# EAGLE library part WIFI2GO (library WIFI2GO)
wifi2go Wi-Fi module made by ImageCraft, USA. The module is based on the CC3100 Wi-Fi chip from Texas Instruments. The module has a STM32F411RCT6 micro-controller. It is an ARM Cortex M4 Core with 256kByte Flash memory and 128kByte SRAM. To program the chip ImageCraft provides JumpStartC, an optimizing IDE/C compiler for under $250 with high quality output. Additional there is the JumpStart wifi2go library that gives you - as the name indicates - a jump start in developing your first IoT application!
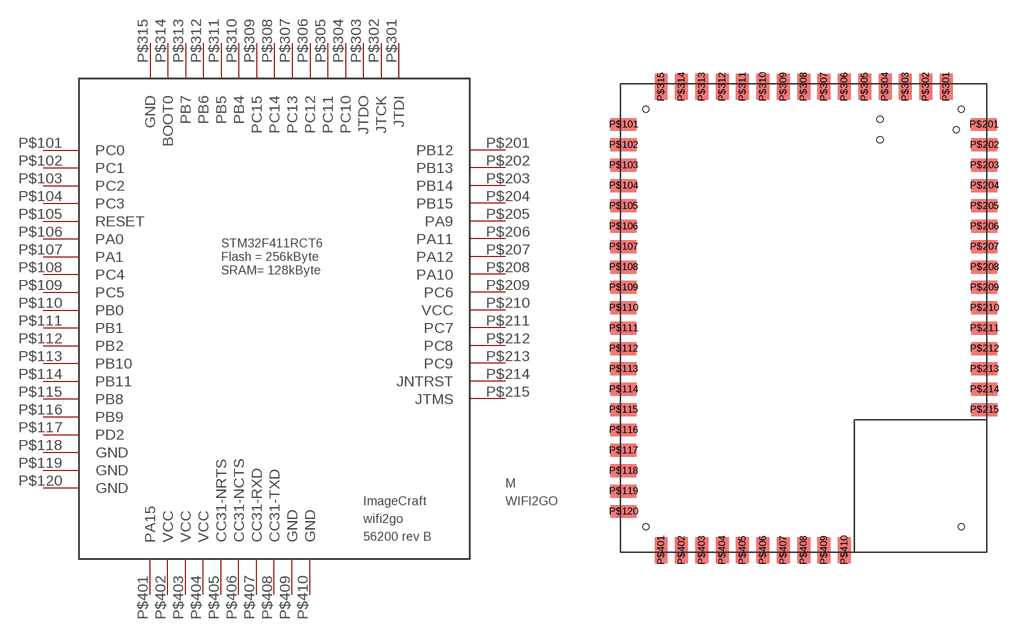
[diagram p0: symbol with the pads of WIFI2GO; footprint WIFI2GO]

Designator prefix M

## WIFI2GO  [WIFI2GO]
P$101  PC0
P$102  PC1
P$103  PC2
P$104  PC3
P$105  RESET
P$106  PA0
P$107  PA1
P$108  PC4
P$109  PC5
P$110  PB0
P$111  PB1
P$112  PB2
P$113  PB10
P$114  PB11
P$115  PB8
P$116  PB9
P$117  PD2
P$118  GND
P$119  GND
P$120  GND
P$201  PB12
P$202  PB13
P$203  PB14
P$204  PB15
P$205  PA9
P$206  PA11
P$207  PA12
P$208  PA10
P$209  PC6
P$210  VCC
P$211  PC7
P$212  PC8
P$213  PC9
P$214  JNTRST
P$215  JTMS
P$301  JTDI
P$302  JTCK
P$303  JTDO
P$304  PC10
P$305  PC11
P$306  PC12
P$307  PC13
P$308  PC14
P$309  PC15
P$310  PB4
P$311  PB5
P$312  PB6
P$313  PB7
P$314  BOOT0
P$315  GND
P$401  PA15
P$402  VCC
P$403  VCC
P$404  VCC
P$405  CC31-NRTS
P$406  CC31-NCTS
P$407  CC31-RXD
P$408  CC31-TXD
P$409  GND
P$410  GND

## Footprint WIFI2GO (pad centres in mm)
wifi2go wifi2go is a module that is based on the CC3100 Wi-Fi chip from Texas Instruments. The module contains the CC3100, antenna and necessary electronics for a Wi-Fi node. The micro-controller is the STM32F411RCT6, an ARM Cortex-M4 core with 256kByte Flash and 128kByte SRAM.
smd 2.56 x 1.27: P$101 0.3,42; P$102 0.3,40; P$103 0.3,38; P$104 0.3,36; P$105 0.3,34; P$106 0.3,32; P$107 0.3,30; P$108 0.3,28; P$109 0.3,26; P$110 0.3,24; P$111 0.3,22; P$112 0.3,20; P$113 0.3,18; P$114 0.3,16; P$115 0.3,14; P$116 0.3,12; P$117 0.3,10; P$118 0.3,8; P$119 0.3,6; P$120 0.3,4; P$201 35.7,42; P$202 35.75,40; P$203 35.75,38; P$204 35.75,36; P$205 35.75,34; P$206 35.75,32; P$207 35.75,30; P$208 35.75,28; P$209 35.75,26; P$210 35.75,24; P$211 35.75,22; P$212 35.75,20; P$213 35.75,18; P$214 35.75,16; P$215 35.75,14
smd 1.27 x 2.56: P$301 32,45.7; P$302 30,45.7; P$303 28,45.7; P$304 26,45.7; P$305 24,45.7; P$306 22,45.7; P$307 20,45.7; P$308 18,45.7; P$309 16,45.7; P$310 14,45.7; P$311 12,45.7; P$312 10,45.7; P$313 8,45.7; P$314 6,45.7; P$315 4,45.7; P$401 4,0.2; P$402 6,0.2; P$403 8,0.2; P$404 10,0.2; P$405 12,0.2; P$406 14,0.2; P$407 16,0.2; P$408 18,0.2; P$409 20,0.2; P$410 22,0.2
hole 0.6 at 2.5,43.5
hole 0.6 at 33.5,43.5
hole 0.6 at 2.5,2.5
hole 0.6 at 33.5,2.5
hole 0.6 at 33,41.5
hole 0.6 at 25.5,42.5
hole 0.6 at 25.5,40.5